# EAGLE library part ISD2560 (library sibosop)
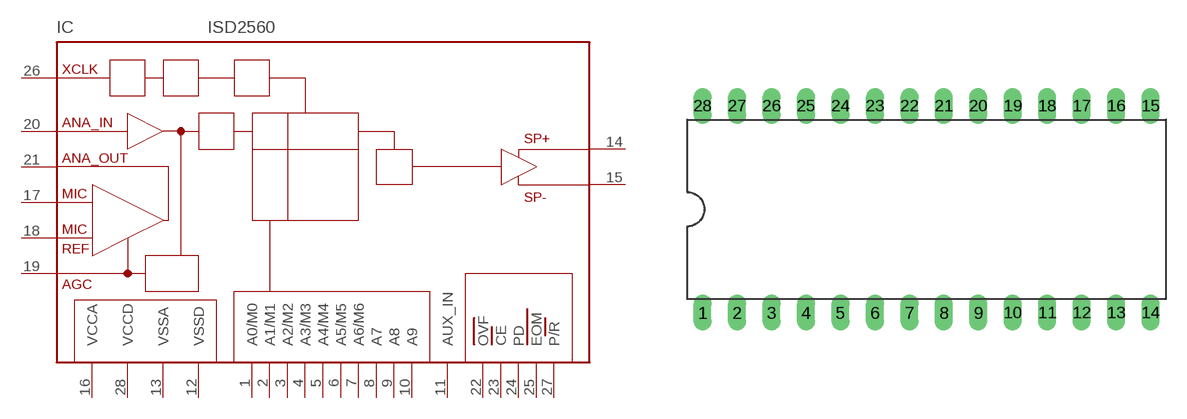
[diagram p0: symbol with the pads of DIL28-6; footprint DIL28-6]

Designator prefix IC

## ISD2560  [DIL28-6]
1  A0/M0  in
2  A1/M1  in
3  A2/M2  in
4  A3/M3  in
5  A4/M4  in
6  A5/M5  in
7  A6/M6  in
8  A7  in
9  A8  in
10  A9  in
11  AUX_IN  pas
12  VSSD  pwr
13  VSSA  pwr
14  SP+  out
15  SP-  out
16  VCCA  pwr
17  MIC  pas
18  MIC_REF  pas
19  AGC  pas
20  ANA_IN  pas
21  ANA_OUT  pas
22  OVF  pas
23  CE  in
24  PD  in
25  EOM  out
26  XCLK  pas
27  P/R  in
28  VCCD  pwr

## Footprint DIL28-6 (pad centres in mm)
drill 0.813 long: 1 -16.51,-7.62; 2 -13.97,-7.62; 3 -11.43,-7.62; 4 -8.89,-7.62; 5 -6.35,-7.62; 6 -3.81,-7.62; 7 -1.27,-7.62; 8 1.27,-7.62; 9 3.81,-7.62; 10 6.35,-7.62; 11 8.89,-7.62; 12 11.43,-7.62; 13 13.97,-7.62; 14 16.51,-7.62; 15 16.51,7.62; 16 13.97,7.62; 17 11.43,7.62; 18 8.89,7.62; 19 6.35,7.62; 20 3.81,7.62; 21 1.27,7.62; 22 -1.27,7.62; 23 -3.81,7.62; 24 -6.35,7.62; 25 -8.89,7.62; 26 -11.43,7.62; 27 -13.97,7.62; 28 -16.51,7.62